# EAGLE library part UBO_PQ60_LTC4413EDDPBF (library EPS)
Dual 2.6A, 2.5V to 5.5V, Ideal Diodes
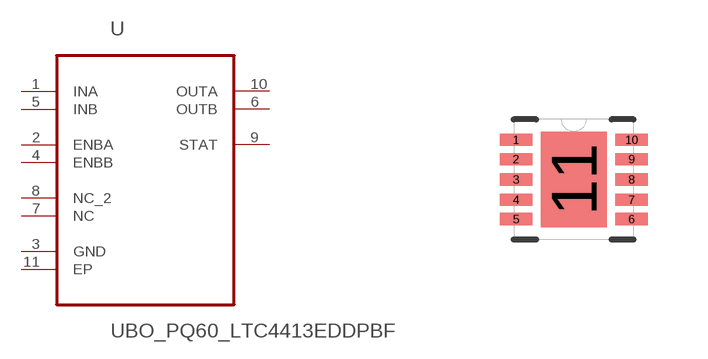
[diagram p7: symbol with the pads of UBO_PQ60_DFN300X300X80-11N; footprint UBO_PQ60_DFN300X300X80-11N]

Designator prefix U

## UBO_PQ60_LTC4413EDDPBF (MPN: LTC4413EDD#PBF; OC_FARNELL: 1663736; OC_NEWARK: 56M9529; PACKAGE: DFN-10; SUPPLIER: Linear Technology)  [UBO_PQ60_DFN300X300X80-11N]
1  INA  pwr
2  ENBA  in
3  GND  pas
4  ENBB  in
5  INB  pwr
6  OUTB  out
7  NC  nc
8  NC_2  nc
9  STAT  out
10  OUTA  out
11  EP  pas

## Footprint UBO_PQ60_DFN300X300X80-11N (pad centres in mm)
smd 0.813 x 0.305: 1 -1.448,0.991; 2 -1.448,0.508; 3 -1.448,0; 4 -1.448,-0.508; 5 -1.448,-0.991; 6 1.448,-0.991; 7 1.448,-0.508; 8 1.448,0; 9 1.448,0.508; 10 1.448,0.991
smd 1.651 x 2.388: 11 0,0